# Altium schematic symbol library FM25V02A-DG.SchLib: 1 symbol
Pins are listed as number, name and electrical type; pins without a type are passive.

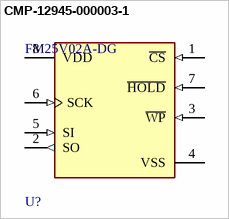
[diagram p0: symbol CMP-12945-000003-1]

## CMP-12945-000003-1
designator U?, comment FM25V02A-DG
IC FRAM 256K SPI 40MHZ 8DFN; Manufacturer: Cypress Semiconductor; Min Supply Voltage: 2V; Access Time: 16ns; Standoff Height: 0.05mm; Memory Type: OTHER; Memory Size: 256Kbits; Nominal Supply Current: 0.22-2.5mA; Max Supply Voltage: 3.6V; Temperature Range High: +85°C; ComponentLink2URL: https://www.cypress.com/file/139666/download; Digikey Description: IC FRAM 256K SPI 40MHZ 8DFN; Automotive: No; Height: 0.8mm; Device Class L2: Memory; Device Class L1: Integrated Circuits (ICs); Ipc Land Pattern Name: DFN450X400X75-8; Interface: SPI; Package: 001-85260; Temperature Range Low: -40°C; Ambient Temperature Range High: +85°C; Device Class L3: unset; Mouser Description: Tube / F-ram Memory Serial; Ambient Temperature Range Low: -40°C; Frequency: 40MHz; Category: IC; RoHS: TRUE; Octopart: https://octopart.com/fm25v02a-dg-cypress+semiconductor-57146311; ComponentLink2Description: Datasheet; Manufacturer Part Number: FM25V02A-DG; Temperature: -40°C to +85°C; Lead Free: Yes
footprint FP-001-85260-IPC_B
footprint FP-001-85260-IPC_C
footprint FP-001-85260-IPC_A
pins: 1 ~{CS} (in), 2 SO (out), 3 ~{WP} (in), 4 VSS (power), 5 SI (in), 6 SCK (in), 7 ~{HOLD} (in), 8 VDD (power)